# Altium footprint library pin_strips_plugs_spring_contact.PcbLib: 1 footprints
Each footprint in its own frame and in the unit in brackets; x right, y up, seen from the top. Pads: shape width x height; smd on the part's side, far side on the other; paste and mask are expansions set on the pad; w line width, h text height; cw(c..) or ccw(c..) is an arc to the next point about the centre after c.
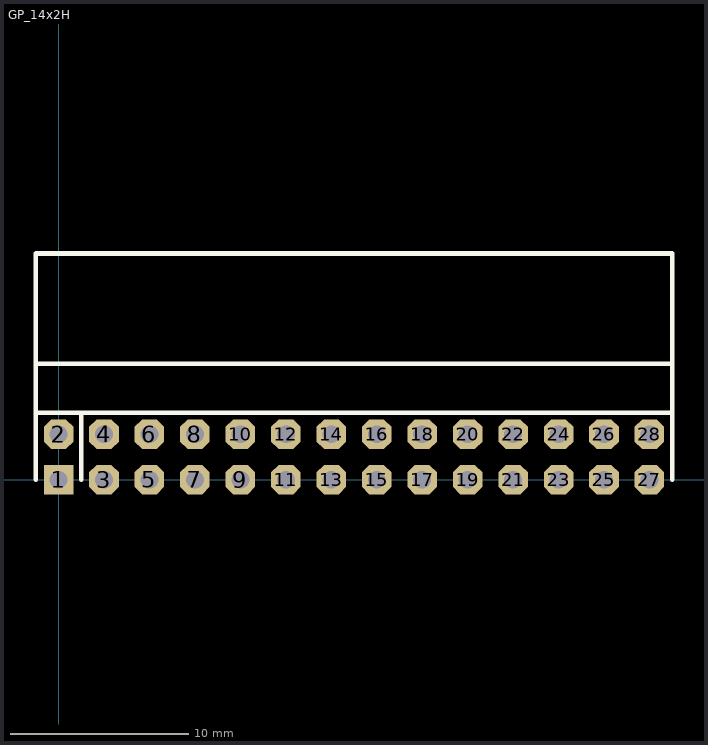
[diagram p0: the footprint, top view; thin cyan lines are the x and y axes]

## GP_14x2H [mil]
pads (28):
  rect 65x65 hole 39.37: 1(0,0)
  oct 65x65 hole 39.37: 2(0,100) 3(100,0) 4(100,100) 5(200,0) 6(200,100) 7(300,0) 8(300,100) 9(400,0) 10(400,100) 11(500,0) 12(500,100) 13(600,0) 14(600,100) 15(700,0) 16(700,100) 17(800,0) 18(800,100) 19(900,0) 20(900,100) 21(1000,0) 22(1000,100) 23(1100,0) 24(1100,100) 25(1200,0) 26(1200,100) 27(1300,0) 28(1300,100)
Top Overlay:
  lines w10: -50,0 -50,180.31 -50,497.64 1350,497.64 1350,0 ; -50,147.24 1350,147.24 ; -50,255.51 1350,255.51 ; 49.21,255.51 50,254.72 ; 50,0 50,147.24